# Altium footprint library Varistor.PcbLib: 102 footprints (part 5 of 7)
Each footprint in its own frame and in the unit in brackets; x right, y up, seen from the top. Pads: shape width x height; smd on the part's side, far side on the other; paste and mask are expansions set on the pad; w line width, h text height; cw(c..) or ccw(c..) is an arc to the next point about the centre after c.
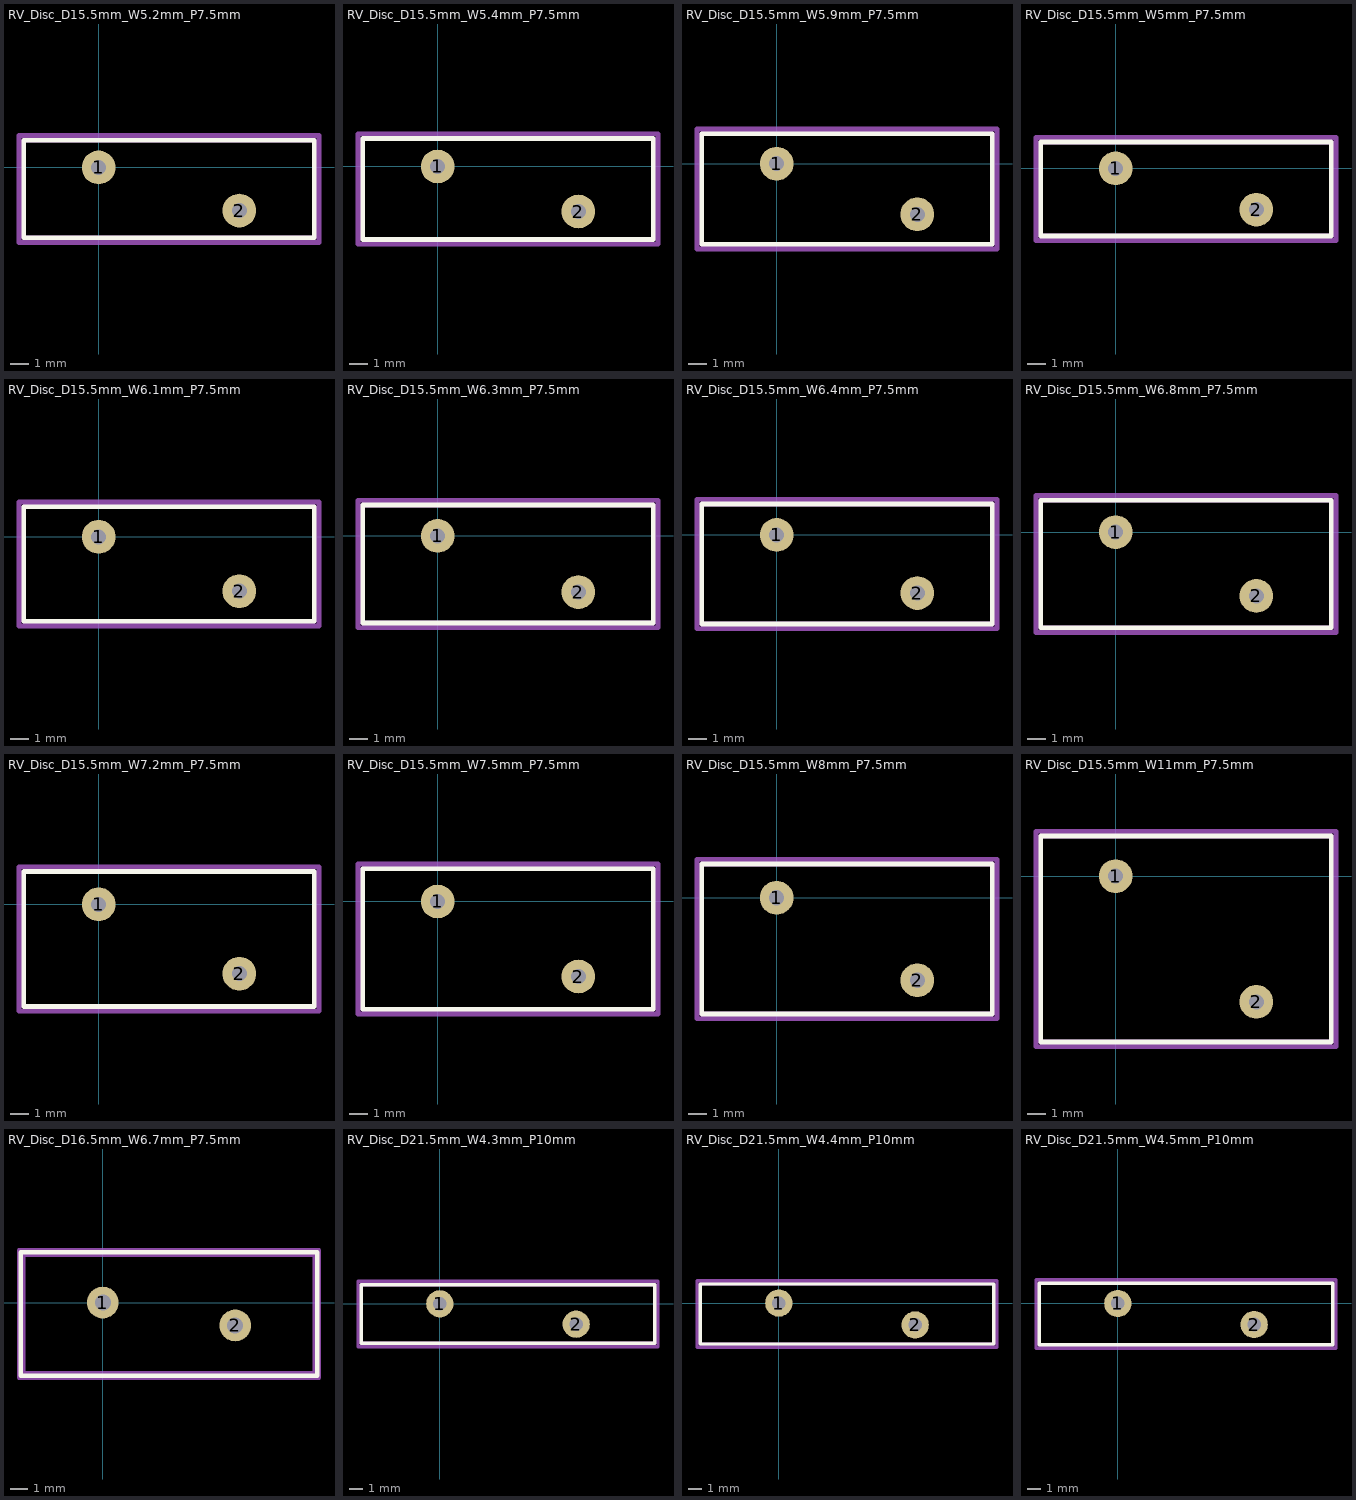
[diagram p4: the footprints below, top view; thin cyan lines are the x and y axes]

## RV_Disc_D15.5mm_W5.2mm_P7.5mm [mm]
pads (2):
  round 1.8 hole 0.8: 1(0,0) 2(7.5,-2.3)
F.SilkS:
  lines w0.254: -4,-3.75 -4,1.45 11.5,1.45 11.5,-3.75 -4,-3.75
F.Fab:
  lines w0.254: -4,-3.75 -4,1.45 11.5,1.45 11.5,-3.75 -4,-3.75
  text "'.Designator'" at -0.297,-1.99 h1
F.CrtYd:
  lines w0.254: -4.25,-4 -4.25,1.7 11.75,1.7 11.75,-4 -4.25,-4
3D body "RV_Disc_D15.5mm_W5.2mm_P7.5mm.step": height 15.53, standoff -3, extent -4,-3.75 11.5,1.45

## RV_Disc_D15.5mm_W5.4mm_P7.5mm [mm]
pads (2):
  round 1.8 hole 0.8: 1(0,0) 2(7.5,-2.4)
F.SilkS:
  lines w0.254: -4,-3.9 -4,1.5 11.5,1.5 11.5,-3.9 -4,-3.9
F.Fab:
  lines w0.254: -4,-3.9 -4,1.5 11.5,1.5 11.5,-3.9 -4,-3.9
  text "'.Designator'" at -0.297,-2.04 h1
F.CrtYd:
  lines w0.254: -4.25,-4.15 -4.25,1.75 11.75,1.75 11.75,-4.15 -4.25,-4.15
3D body "RV_Disc_D15.5mm_W5.4mm_P7.5mm.step": height 15.53, standoff -3, extent -4,-3.9 11.5,1.5

## RV_Disc_D15.5mm_W5.9mm_P7.5mm [mm]
pads (2):
  round 1.8 hole 0.8: 1(0,0) 2(7.5,-2.7)
F.SilkS:
  lines w0.254: -4,-4.3 -4,1.6 11.5,1.6 11.5,-4.3 -4,-4.3
F.Fab:
  lines w0.254: -4,-4.3 -4,1.6 11.5,1.6 11.5,-4.3 -4,-4.3
  text "'.Designator'" at -0.297,-2.19 h1
F.CrtYd:
  lines w0.254: -4.25,-4.55 -4.25,1.85 11.75,1.85 11.75,-4.55 -4.25,-4.55
3D body "RV_Disc_D15.5mm_W5.9mm_P7.5mm.step": height 15.53, standoff -3, extent -4,-4.3 11.5,1.6

## RV_Disc_D15.5mm_W5mm_P7.5mm [mm]
pads (2):
  round 1.8 hole 0.8: 1(0,0) 2(7.5,-2.2)
F.SilkS:
  lines w0.254: -4,-3.6 -4,1.4 11.5,1.4 11.5,-3.6 -4,-3.6
F.Fab:
  lines w0.254: -4,-3.6 -4,1.4 11.5,1.4 11.5,-3.6 -4,-3.6
  text "'.Designator'" at -0.297,-1.94 h1
F.CrtYd:
  lines w0.254: -4.25,-3.85 -4.25,1.65 11.75,1.65 11.75,-3.85 -4.25,-3.85
3D body "RV_Disc_D15.5mm_W5mm_P7.5mm.step": height 15.53, standoff -3, extent -4,-3.6 11.5,1.4

## RV_Disc_D15.5mm_W6.1mm_P7.5mm [mm]
pads (2):
  round 1.8 hole 0.8: 1(0,0) 2(7.5,-2.9)
F.SilkS:
  lines w0.254: -4,-4.5 -4,1.6 11.5,1.6 11.5,-4.5 -4,-4.5
F.Fab:
  lines w0.254: -4,-4.5 -4,1.6 11.5,1.6 11.5,-4.5 -4,-4.5
  text "'.Designator'" at -0.297,-2.29 h1
F.CrtYd:
  lines w0.254: -4.25,-4.75 -4.25,1.85 11.75,1.85 11.75,-4.75 -4.25,-4.75
3D body "RV_Disc_D15.5mm_W6.1mm_P7.5mm.step": height 15.53, standoff -3, extent -4,-4.5 11.5,1.6

## RV_Disc_D15.5mm_W6.3mm_P7.5mm [mm]
pads (2):
  round 1.8 hole 0.8: 1(0,0) 2(7.5,-3)
F.SilkS:
  lines w0.254: -4,-4.65 -4,1.65 11.5,1.65 11.5,-4.65 -4,-4.65
F.Fab:
  lines w0.254: -4,-4.65 -4,1.65 11.5,1.65 11.5,-4.65 -4,-4.65
  text "'.Designator'" at -0.297,-2.34 h1
F.CrtYd:
  lines w0.254: -4.25,-4.9 -4.25,1.9 11.75,1.9 11.75,-4.9 -4.25,-4.9
3D body "RV_Disc_D15.5mm_W6.3mm_P7.5mm.step": height 15.53, standoff -3, extent -4,-4.65 11.5,1.65

## RV_Disc_D15.5mm_W6.4mm_P7.5mm [mm]
pads (2):
  round 1.8 hole 0.8: 1(0,0) 2(7.5,-3.1)
F.SilkS:
  lines w0.254: -4,-4.75 -4,1.65 11.5,1.65 11.5,-4.75 -4,-4.75
F.Fab:
  lines w0.254: -4,-4.75 -4,1.65 11.5,1.65 11.5,-4.75 -4,-4.75
  text "'.Designator'" at -0.297,-2.39 h1
F.CrtYd:
  lines w0.254: -4.25,-5 -4.25,1.9 11.75,1.9 11.75,-5 -4.25,-5
3D body "RV_Disc_D15.5mm_W6.4mm_P7.5mm.step": height 15.53, standoff -3, extent -4,-4.75 11.5,1.65

## RV_Disc_D15.5mm_W6.8mm_P7.5mm [mm]
pads (2):
  round 1.8 hole 0.8: 1(0,0) 2(7.5,-3.4)
F.SilkS:
  lines w0.254: -4,-5.1 -4,1.7 11.5,1.7 11.5,-5.1 -4,-5.1
F.Fab:
  lines w0.254: -4,-5.1 -4,1.7 11.5,1.7 11.5,-5.1 -4,-5.1
  text "'.Designator'" at -0.297,-2.54 h1
F.CrtYd:
  lines w0.254: -4.25,-5.35 -4.25,1.95 11.75,1.95 11.75,-5.35 -4.25,-5.35
3D body "RV_Disc_D15.5mm_W6.8mm_P7.5mm.step": height 15.53, standoff -3, extent -4.067,-5.149 11.433,1.651

## RV_Disc_D15.5mm_W7.2mm_P7.5mm [mm]
pads (2):
  round 1.8 hole 0.8: 1(0,0) 2(7.5,-3.7)
F.SilkS:
  lines w0.254: -4,-5.45 -4,1.75 11.5,1.75 11.5,-5.45 -4,-5.45
F.Fab:
  lines w0.254: -4,-5.45 -4,1.75 11.5,1.75 11.5,-5.45 -4,-5.45
  text "'.Designator'" at -0.297,-2.69 h1
F.CrtYd:
  lines w0.254: -4.25,-5.7 -4.25,2 11.75,2 11.75,-5.7 -4.25,-5.7
3D body "RV_Disc_D15.5mm_W7.2mm_P7.5mm.step": height 15.53, standoff -3, extent -4,-5.45 11.5,1.75

## RV_Disc_D15.5mm_W7.5mm_P7.5mm [mm]
pads (2):
  round 1.8 hole 0.8: 1(0,0) 2(7.5,-4)
F.SilkS:
  lines w0.254: -4,-5.75 -4,1.75 11.5,1.75 11.5,-5.75 -4,-5.75
F.Fab:
  lines w0.254: -4,-5.75 -4,1.75 11.5,1.75 11.5,-5.75 -4,-5.75
  text "'.Designator'" at -0.297,-2.84 h1
F.CrtYd:
  lines w0.254: -4.25,-6 -4.25,2 11.75,2 11.75,-6 -4.25,-6
3D body "RV_Disc_D15.5mm_W7.5mm_P7.5mm.step": height 15.53, standoff -3, extent -4,-5.75 11.5,1.75

## RV_Disc_D15.5mm_W8mm_P7.5mm [mm]
pads (2):
  round 1.8 hole 0.8: 1(0,0) 2(7.5,-4.4)
F.SilkS:
  lines w0.254: -4,-6.2 -4,1.8 11.5,1.8 11.5,-6.2 -4,-6.2
F.Fab:
  lines w0.254: -4,-6.2 -4,1.8 11.5,1.8 11.5,-6.2 -4,-6.2
  text "'.Designator'" at -0.297,-3.04 h1
F.CrtYd:
  lines w0.254: -4.25,-6.45 -4.25,2.05 11.75,2.05 11.75,-6.45 -4.25,-6.45
3D body "RV_Disc_D15.5mm_W8mm_P7.5mm.step": height 15.53, standoff -3, extent -4,-6.2 11.5,1.8

## RV_Disc_D15.5mm_W11mm_P7.5mm [mm]
pads (2):
  round 1.8 hole 0.8: 1(0,0) 2(7.5,-6.7)
F.SilkS:
  lines w0.254: -4,-8.85 -4,2.15 11.5,2.15 11.5,-8.85 -4,-8.85
F.Fab:
  lines w0.254: -4,-8.85 -4,2.15 11.5,2.15 11.5,-8.85 -4,-8.85
  text "'.Designator'" at -0.297,-4.19 h1
F.CrtYd:
  lines w0.254: -4.25,-9.1 -4.25,2.4 11.75,2.4 11.75,-9.1 -4.25,-9.1
3D body "RV_Disc_D15.5mm_W11mm_P7.5mm.step": height 15.53, standoff -3, extent -4,-8.85 11.5,2.15

## RV_Disc_D16.5mm_W6.7mm_P7.5mm [mm]
pads (2):
  round 1.8 hole 0.9: 1(0,0) 2(7.5,-1.3)
F.SilkS:
  lines w0.254: -4.65,-4.15 -4.65,2.85 12.15,2.85 12.15,-4.15 -4.65,-4.15
F.Fab:
  lines w0.254: -4.5,-4 -4.5,2.7 12,2.7 12,-4 -4.5,-4
  text "'.Designator'" at -0.297,-1.79 h1
F.CrtYd:
  lines w0.254: -4.75,-4.25 -4.75,2.95 12.25,2.95 12.25,-4.25 -4.75,-4.25
3D body "RV_Disc_D16.5mm_W6.7mm_P7.5mm.step": height 16.53, standoff -3, extent -4.5,-4 12,2.7

## RV_Disc_D21.5mm_W4.3mm_P10mm [mm]
pads (2):
  round 2 hole 1: 1(0,0) 2(10,-1.5)
F.SilkS:
  lines w0.254: -5.75,-2.9 -5.75,1.4 15.75,1.4 15.75,-2.9 -5.75,-2.9
F.Fab:
  lines w0.254: -5.75,-2.9 -5.75,1.4 15.75,1.4 15.75,-2.9 -5.75,-2.9
  text "'.Designator'" at 0.953,-1.59 h1
F.CrtYd:
  lines w0.254: -6,-3.15 -6,1.65 16,1.65 16,-3.15 -6,-3.15
3D body "RV_Disc_D21.5mm_W4.3mm_P10mm.step": height 21.53, standoff -3, extent -5.75,-2.9 15.75,1.4

## RV_Disc_D21.5mm_W4.4mm_P10mm [mm]
pads (2):
  round 2 hole 1: 1(0,0) 2(10,-1.6)
F.SilkS:
  lines w0.254: -5.75,-3 -5.75,1.4 15.75,1.4 15.75,-3 -5.75,-3
F.Fab:
  lines w0.254: -5.75,-3 -5.75,1.4 15.75,1.4 15.75,-3 -5.75,-3
  text "'.Designator'" at 0.953,-1.64 h1
F.CrtYd:
  lines w0.254: -6,-3.25 -6,1.65 16,1.65 16,-3.25 -6,-3.25
3D body "RV_Disc_D21.5mm_W4.4mm_P10mm.step": height 21.53, standoff -3, extent -5.75,-3 15.75,1.4

## RV_Disc_D21.5mm_W4.5mm_P10mm [mm]
pads (2):
  round 2 hole 1: 1(0,0) 2(10,-1.55)
F.SilkS:
  lines w0.254: -5.75,-3.025 -5.75,1.475 15.75,1.475 15.75,-3.025 -5.75,-3.025
F.Fab:
  lines w0.254: -5.75,-3.025 -5.75,1.475 15.75,1.475 15.75,-3.025 -5.75,-3.025
  text "'.Designator'" at 0.953,-1.615 h1
F.CrtYd:
  lines w0.254: -6,-3.28 -6,1.73 16,1.73 16,-3.28 -6,-3.28
3D body "RV_Disc_D21.5mm_W4.5mm_P10mm.step": height 21.53, standoff -3, extent -5.75,-3.025 15.75,1.475